# Altium footprint library L-PE-N_Connector.PcbLib: 1 footprints
Each footprint in its own frame and in the unit in brackets; x right, y up, seen from the top. Pads: shape width x height; smd on the part's side, far side on the other; paste and mask are expansions set on the pad; w line width, h text height; cw(c..) or ccw(c..) is an arc to the next point about the centre after c.
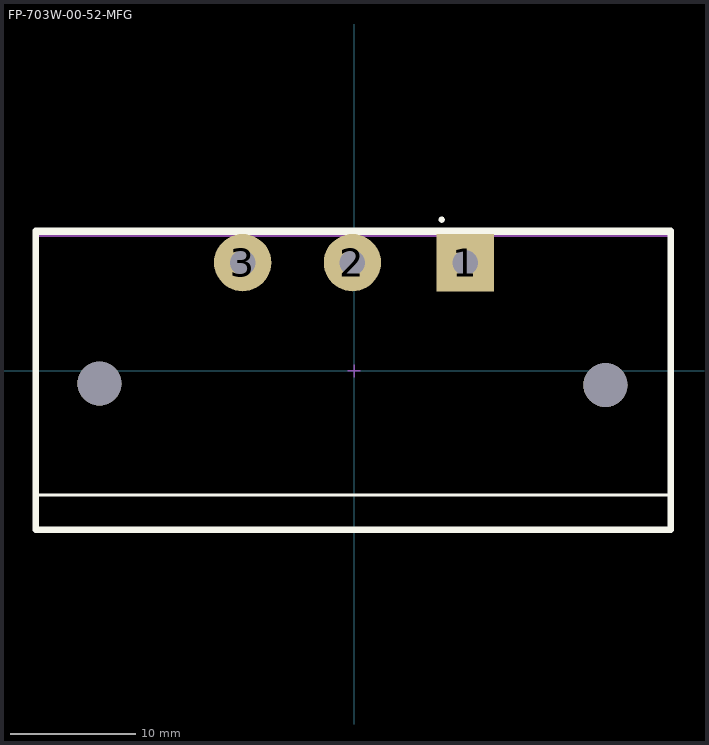
[diagram p0: the footprint, top view; thin cyan lines are the x and y axes]

## FP-703W-00-52-MFG [mil]
pads (5):
  rect 180x180 hole 80 paste-39370.1 mask+0: 1(350,340)
  round 180 hole 80 paste-39370.1 mask+0: 2(-5,340) 3(-350,340)
  round 137.8 hole 137.8 unplated paste-39370.1 mask+0: ""(-800,-40) ""(790,-45)
Top Overlay:
  circle w9.84: c275.59,475 r4.92
  lines w7.87: -996.06,-500 -996.06,430 996.06,430 996.06,-500 -996.06,-500
  lines w10: -1000,-390 996.06,-390
  lines w20: -1000,-500 996.06,-500 996.06,440 -1000,440 -1000,-500
Bottom Overlay:
  lines w10: -1000,-390 1000,-390
Top Assembly:
  lines w7.87: -1000,-500 -1000,425 1000,425 1000,-500 -1000,-500
  text ".Designator" at 0,7.39 h39.37
Top 3D Body:
  lines w7.87: -996.06,-500 -996.06,425 996.06,425 996.06,-500 -996.06,-500
Top Courtyard:
  lines w7.87: -1000,-500 -1000,430 1000,430 1000,-500 -1000,-500
Top Component Center:
  lines w3.94: -19.68,0 19.68,0 ; 0,-19.68 0,19.68
3D body "Трапешка.STEP": height 1093.31, standoff -152.76, extent -977.76,-501.42 975,421.42